# Altium footprint library AMS1117.PcbLib: 1 footprints
Each footprint in its own frame and in the unit in brackets; x right, y up, seen from the top. Pads: shape width x height; smd on the part's side, far side on the other; paste and mask are expansions set on the pad; w line width, h text height; cw(c..) or ccw(c..) is an arc to the next point about the centre after c.
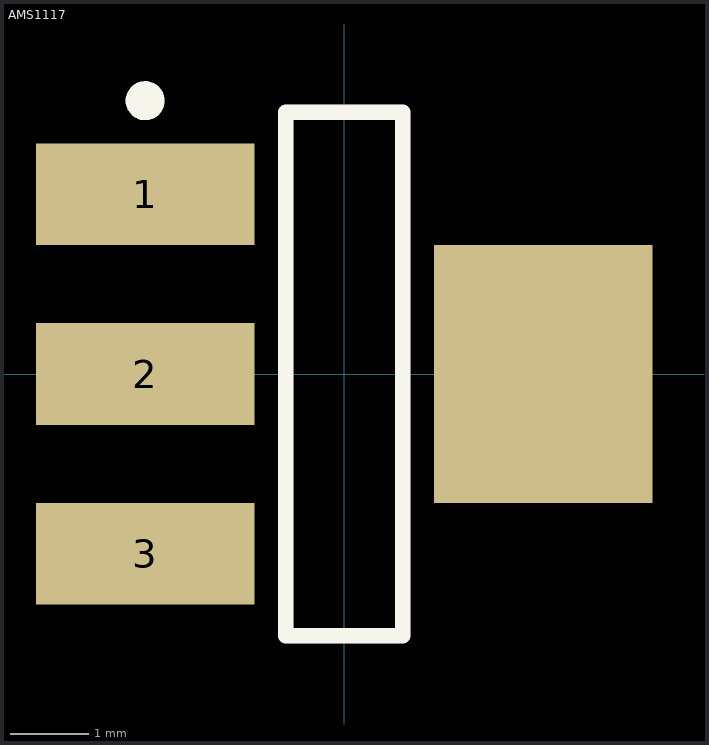
[diagram p0: the footprint, top view; thin cyan lines are the x and y axes]

## AMS1117 [mm]
pads (4):
  rect 2.8x1.3 smd: 1(-2.55,2.3) 2(-2.55,0) 3(-2.55,-2.3)
  rect 2.8x3.3 smd: ""(2.55,0)
Top Overlay:
  circle w0.25: c-2.55,3.5 r0.125
Top Overlay keep-out:
  lines w0.2: -0.75,-3.35 -0.75,3.35 0.75,3.35 0.75,-3.35 -0.75,-3.35